# Altium schematic symbol library дроссели и трансы.SchLib: 49 symbols
Pins are listed as number, name and electrical type; pins without a type are passive.

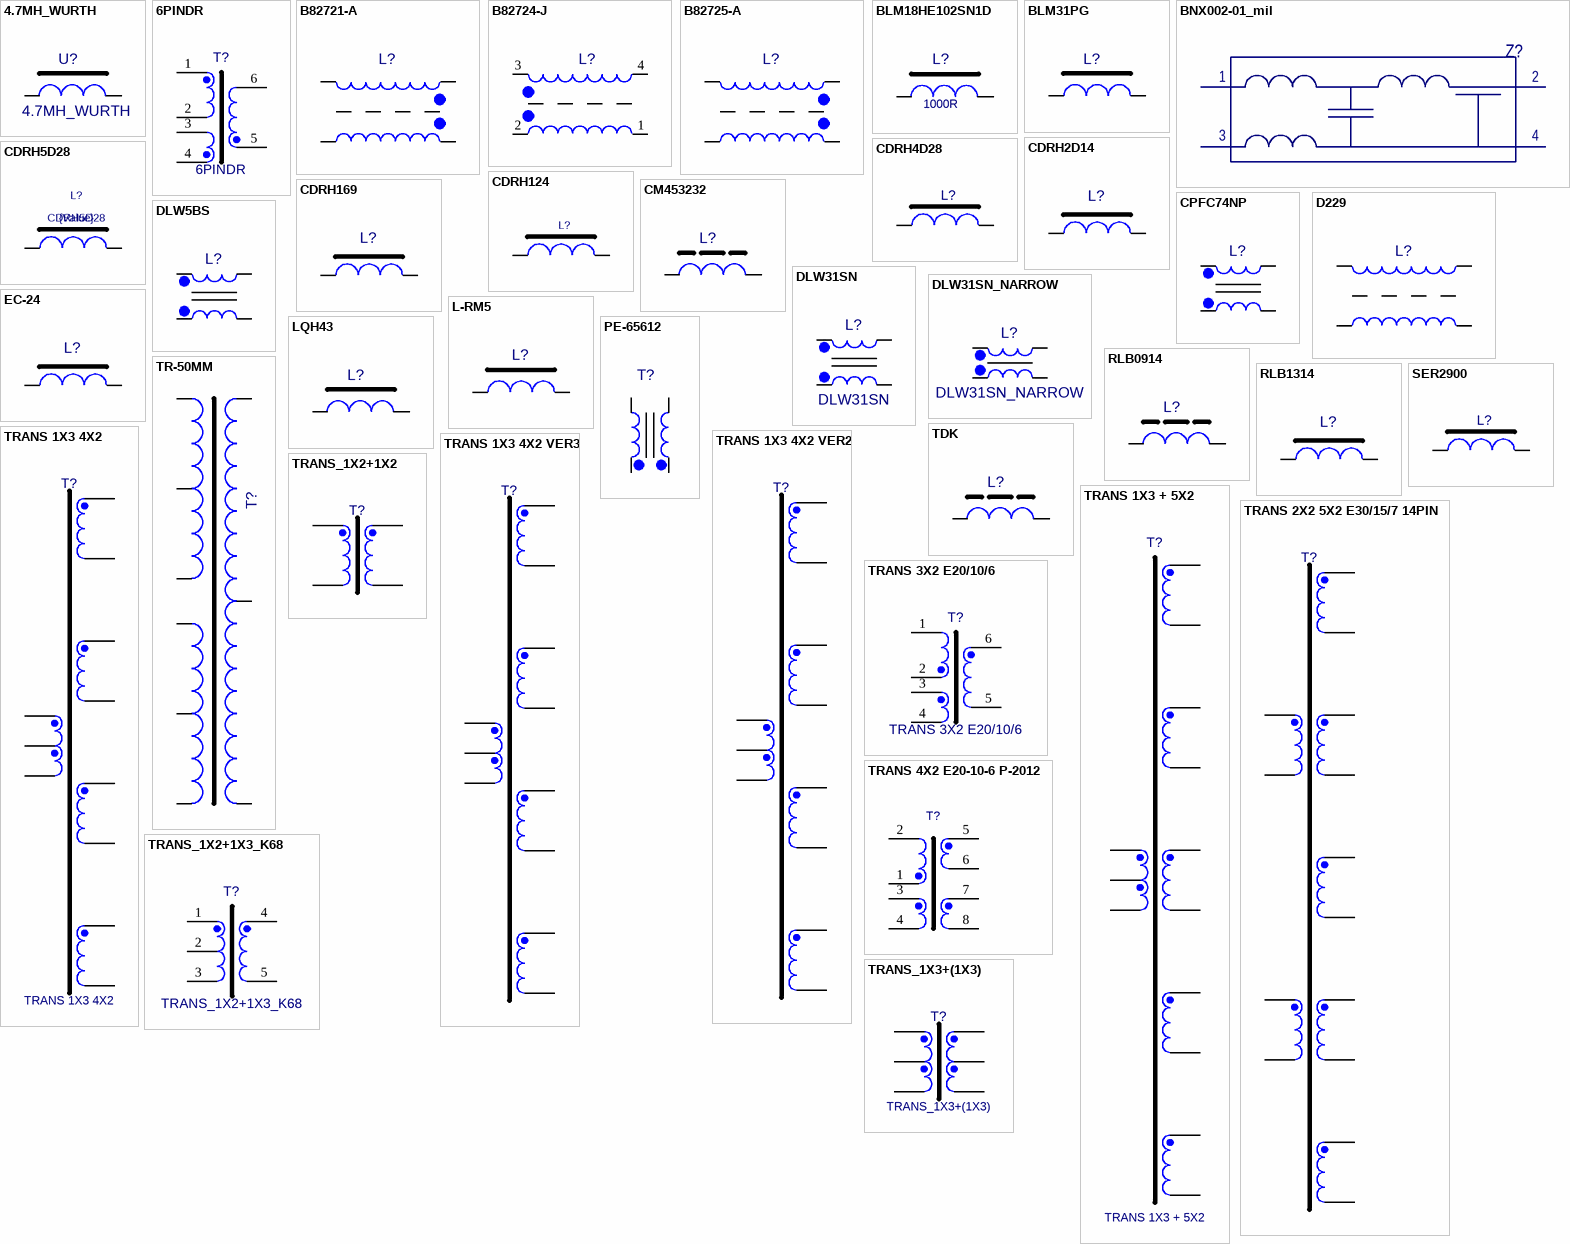
[diagram p0: symbols 4.7MH_WURTH to TRANS_1X3+(1X3)]

## 4.7MH_WURTH
designator U?
Value: *
footprint L 4 PIN
pins: 1 hidden, 2, 3 1, 4 hidden

## 6PINDR
designator T?
Value: *
footprint TRANS_6PIN
pins: 1, 2, 3, 4, 5, 6

## B82721-A
designator L?  (value not drawn)
Value: *
footprint B82721-A
pins: 1, 2, 3, 4

## B82724-J
designator L?  (value not drawn)
Value: *
footprint B82724-J
pins: 1, 2, 3, 4

## B82725-A
designator L?  (value not drawn)
Value: *
footprint B82725-A
pins: 1, 2, 3, 4

## BLM18HE102SN1D
designator L?, comment 1000R
Импеданс: 1 kOhms / Максимальный постоянный ток: 600 mA / Допустимое отклонение: 25 % / Максимальное сопротивление постоянному току: 350 mOhms / Минимальная рабочая температура: - 55 C / Максимальная рабочая температура: + 125 C; Part Number: BLM18HE102SN1D; Value: 1000R
footprint 0603_BLM18 (Ферритовый фильтр 0603(1608))
pins: 1, 2

## BLM31PG
designator L?  (value not drawn)
Value: {Value}
footprint 1206_PAT
pins: 1, 2

## BNX002-01_mil
designator Z?, comment BNX002-01  (value not drawn)
Manufacturer: Murata; Cell: *; ManufacturerPartNmber: BNX002-01; Value: *; Tolerance: *; Current: *; Voltage: *; Power: *
footprint BNX002-01
pins: 1, 2, 3, 4

## CDRH2D14
designator L?  (value not drawn)
Value: *
footprint CDRH2D14
pins: 1, 2

## CDRH4D28
designator L?  (value not drawn)
Value: *
footprint CDRH4D28
pins: 1, 2

## CDRH5D28
designator L?  value {Value}
pins: 1, 2

## CDRH124
designator L?  (value not drawn)
Value: *
footprint CDRH124
pins: 1, 2

## CDRH169
designator L?  (value not drawn)
Value: *
footprint CDRH169
pins: 1, 2

## CM453232
designator L?  (value not drawn)
Value: *
footprint CM453232
pins: 1, 2

## CPFC74NP
designator L?  (value not drawn)
Value: {Value}
footprint CPFC74NP
pins: 1, 2, 3, 4

## D229
designator L?  (value not drawn)
Value: *
footprint D229
pins: 1, 2, 3, 4

## DLW5BS
designator L?  (value not drawn)
Value: {Value}
footprint DLW5BS
pins: 1, 2, 3, 4

## DLW31SN
designator L?
Value: *
footprint DLW31SN
pins: 1, 2, 3, 4

## DLW31SN_NARROW
designator L?
Value: *
footprint DLW31SN
pins: 1, 2, 3, 4

## EC-24
designator L?  (value not drawn)
Value: *
footprint RES400
pins: 1, 2

## L-RM5
designator L?  (value not drawn)
Value: *
footprint L-RM5
pins: 1, 2, 3 hidden, 4 hidden, 5 hidden, 6 hidden

## LQH43
designator L?  (value not drawn)
Value: *
footprint LQH43
pins: 1, 2

## PE-65612
designator T?  (value not drawn)
Value: *
footprint PE-65612
pins: 1, 2, 3, 4

## RLB0914
designator L?  (value not drawn)
Value: *
footprint RLB0914
pins: 1, 2

## RLB1314
designator L?  (value not drawn)
Value: *
footprint RLB1314
pins: 1, 2

## SER2900
designator L?  (value not drawn)
Value: *
footprint SER2900 (SER2900 30A)
pins: 1, 2

## TDK
designator L?  (value not drawn)
Value: {Value}
footprint TDK
pins: 1, 2

## TR-50MM
designator T?  (value not drawn)
Value: *
footprint TR-50MM
pins: 1, 2, 3, 4, 5, 6, 7, 8, 9

## TRANS 1X3 4X2
designator T?
Value: *
footprint E30/15/7_HORIZONTAL
pins: 1, 2, 3, 4, 5, 6, 7, 8, 9, 10, 11, 12 hidden, 13 hidden, 14 hidden

## TRANS 1X3 4X2 VER2
designator T?  (value not drawn)
Value: *
footprint E30/15/7_HORIZONTAL
pins: 1, 2, 3, 4, 5, 6, 7, 8, 9, 10, 11, 12, 13, 14

## TRANS 1X3 4X2 VER3
designator T?  (value not drawn)
Value: *
footprint E30/15/7_HORIZONTAL
pins: 1, 2, 3, 4, 5, 6, 7, 8, 9, 10, 11, 12, 13, 14

## TRANS 1X3 + 5X2
designator T?
Value: {Value}
pins: 1, 2, 3, 4, 5, 6, 7, 8, 9, 10, 11, 12, 13

## TRANS 2X2 5X2 E30/15/7 14PIN
designator T?  (value not drawn)
Value: *
footprint E30/15/7_HORIZONTAL
pins: 1, 2, 3, 4, 5, 6, 7, 8, 9, 10, 11, 12, 13, 14

## TRANS 3X2 E20/10/6
designator T?
Value: *
footprint 20_10_6_2012
pins: 1, 2, 3, 4, 5, 6, 7 hidden, 8 hidden

## TRANS 4X2 E20-10-6 P-2012
designator T?  (value not drawn)
Value: *
footprint 20_10_6_2012
pins: 1, 2, 3, 4, 5, 6, 7, 8

## TRANS_1X2+1X2
designator T?  (value not drawn)
Value: *
pins: 1, 2, 3, 4

## TRANS_1X2+1X3_K68
designator T?
Value: {Value}
footprint TRANS_1X3+1X2_K68
pins: 1, 2, 3, 4, 5

## TRANS_1X3+(1X3)
designator T?
Value: *
pins: 1, 2, 3, 4, 5, 6

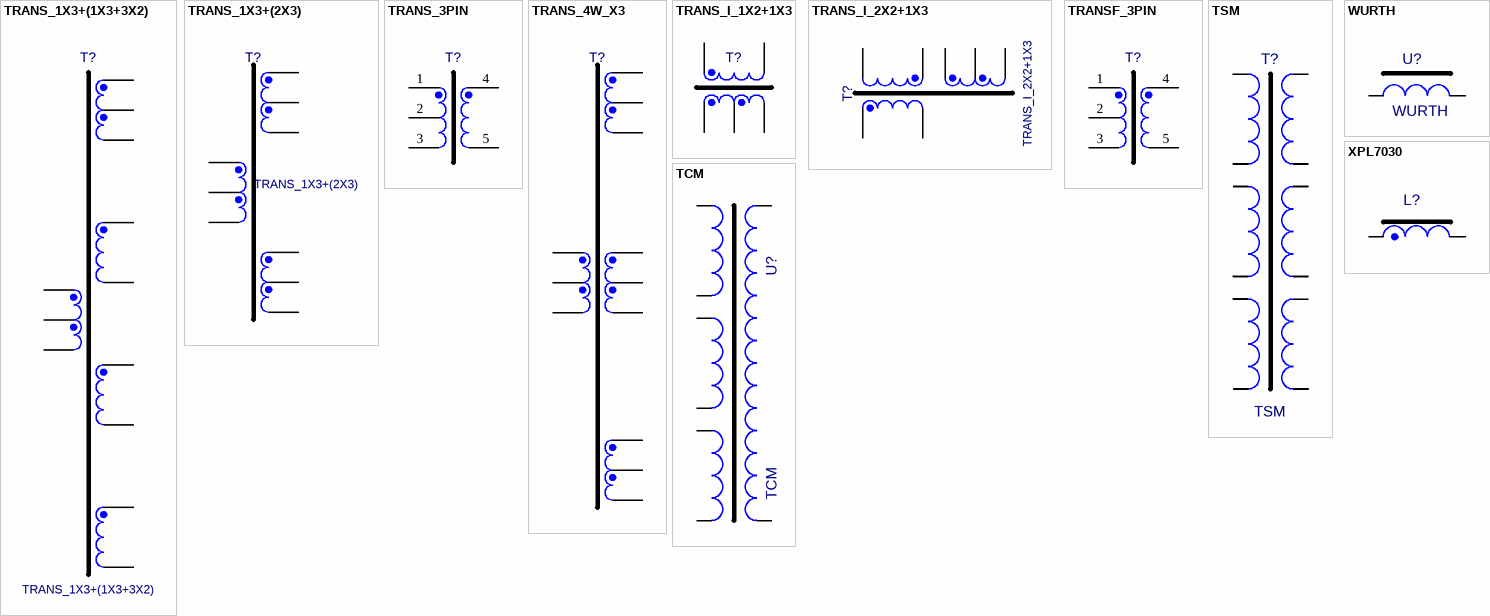
[diagram p1: symbols TRANS_1X3+(1X3+3X2) to ТСМ]

## TRANS_1X3+(1X3+3X2)
designator T?
Value: *
pins: 1, 2, 3, 4, 5, 6, 7, 8, 9, 10, 11, 12

## TRANS_1X3+(2X3)
designator T?
Value: *
pins: 1, 2, 3, 4, 5, 6, 7, 8, 9

## TRANS_3PIN
designator T?  (value not drawn)
Value: *
footprint TRANS_3PIN
pins: 1, 2, 3, 4, 5

## TRANS_4W_X3
designator T?  (value not drawn)
Value: *
pins: 1, 2, 3, 4, 5, 6, 7, 8, 9, 10, 11, 12

## TRANS_I_1X2+1X3
designator T?  (value not drawn)
Value: {Value}
pins: 1, 2, 3, 4, 5

## TRANS_I_2X2+1X3
designator T?
Value: *
pins: 1, 2, 3, 4, 5, 6, 7

## TRANSF_3PIN
designator T?  (value not drawn)
Value: *
footprint TRANS_1X3+2_K68
pins: 1, 2, 3, 4, 5

## TSM
designator T?
Value: *
pins: 1, 2, 3, 4, 5, 6, 7, 8, 9, 10, 11, 12

## WURTH
designator U?
Value: *
footprint L 4 PIN
pins: 1 hidden, 2, 3 1, 4 hidden

## XPL7030
designator L?  (value not drawn)
Value: *
footprint XPL7030
pins: 1, 2

## ТСМ
designator U?
Value: *
pins: 1, 2, 3, 4, 5, 6, 7, 8